# Altium schematic symbol library Module.SchLib: 54 symbols
Pins are listed as number, name and electrical type; pins without a type are passive.

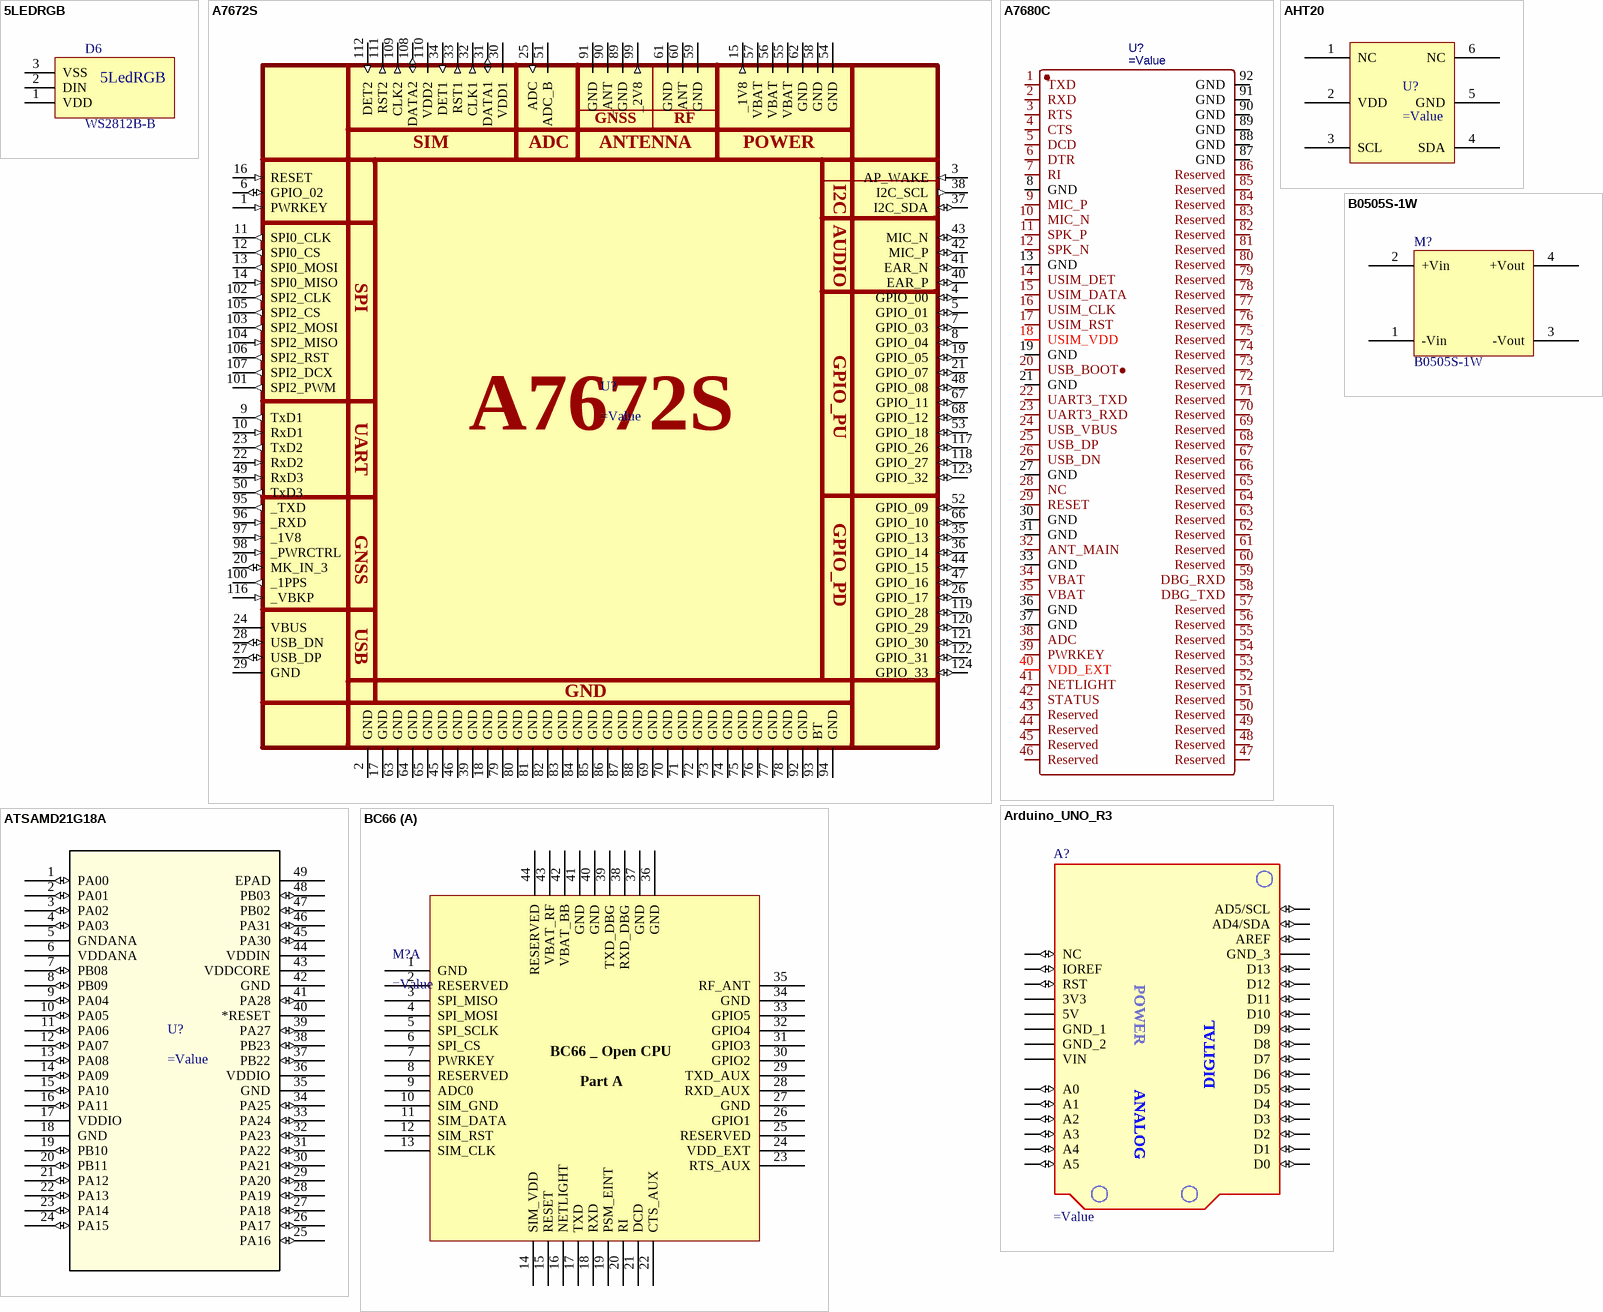
[diagram p0: symbols 5LEDRGB to BC66]

## 5LEDRGB
designator D6, comment WS2812B-B
RGB 620~630nmRed,515~530nmGreen,465~475nmBlue SMD,5x5mm Light Emitting Diodes (LED) RoHS; Manufacture: Worldsemi; Partnumber: WS2812B-B; Value: WS2812B-B; Creator: Huynn; Category: LED; Mounting type: SMD; Detailed Value: WS2812B-B
footprint WS2812B
pins: 1 VDD, 2 DIN, 3 VSS
text: 5LedRGB

## A7672S
designator U?
=Description
pins: 1 PWRKEY (in), 2 GND (power), 3 AP_WAKE (in), 4 GPIO_00 (io), 5 GPIO_01 (io), 6 GPIO_02 (io), 7 GPIO_03 (io), 8 GPIO_04 (io), 9 TxD1 (out), 10 RxD1 (in), 11 SPI0_CLK (out), 12 SPI0_CS (out), 13 SPI0_MOSI (out), 14 SPI0_MISO (in), 15 _1V8 (out), 16 RESET (in), 17 GND (power), 18 GND (power), 19 GPIO_05 (io), 20 MK_IN_3 (io), 21 GPIO_07 (io), 22 RxD2 (in), 23 TxD2 (out), 24 VBUS (power), 25 ADC (in), 26 GPIO_17 (io), 27 USB_DP (io), 28 USB_DN (io), 29 GND (power), 30 VDD1 (power), 31 DATA1 (io), 32 CLK1 (out), 33 RST1 (out), 34 DET1 (in), 35 GPIO_13 (io), 36 GPIO_14 (io), 37 I2C_SDA (io), 38 I2C_SCL (out), 39 GND (power), 40 EAR_P (io), 41 EAR_N (io), 42 MIC_P (io), 43 MIC_N (io), 44 GPIO_15 (io), 45 GND (power), 46 GND (power), 47 GPIO_16 (io), 48 GPIO_08 (io), 49 RxD3 (in), 50 TxD3 (out), 51 ADC_B (power), 52 GPIO_09 (io), 53 GPIO_18 (io), 54 GND (power), 55 VBAT (power), 56 VBAT (power), 57 VBAT (power), 58 GND (power), 59 GND (power), 60 _ANT, 61 GND (power), 62 GND (power), 63 GND (power), 64 GND (power), 65 GND (power), 66 GPIO_10 (io), 67 GPIO_11 (io), 68 GPIO_12 (io), 69 GND (power), 70 GND (power), 71 GND (power), 72 GND (power), 73 GND (power), 74 GND (power), 75 GND (power), 76 GND (power), 77 GND (power), 78 GND (power), 79 GND (power), 80 GND (power), 81 GND (power), 82 GND (power), 83 GND (power), 84 GND (power), 85 GND (power), 86 GND (power), 87 GND (power), 88 GND (power), 89 GND (power), 90 _ANT, 91 GND (power), 92 GND (power), 93 BT, 94 GND (power), 95 _TXD (out), 96 _RXD (in), 97 _1V8 (in), 98 _PWRCTRL (in), 99 _2V8 (out), 100 _1PPS (out), 101 SPI2_PWM (out), 102 SPI2_CLK (out), 103 SPI2_MOSI (out), 104 SPI2_MISO (in), 105 SPI2_CS (out), 106 SPI2_RST (out), 107 SPI2_DCX (out), 108 DATA2 (io), 109 CLK2 (out), 110 VDD2 (power), 111 RST2 (out), 112 DET2 (in), 116 _VBKP (in), 117 GPIO_26 (io), 118 GPIO_27 (io), 119 GPIO_28 (io), 120 GPIO_29 (io), 121 GPIO_30 (io), 122 GPIO_31 (io), 123 GPIO_32 (io), 124 GPIO_33 (io)
text: GNSS; RF; SIM; ANTENNA; POWER; I2C; AUDIO; SPI; GPIO_PU; UART; GPIO_PD; USB

## A7680C
designator U?
=Description; Manufacturer: SIMCOM(芯讯通无线科技); Manufacturer Part: A7680C-LAAS; Contributor: LCSC; Supplier: LCSC; Supplier Part: C2981435; JLCPCB Part Class: Extended Part; spicePre: U; spiceSymbolName: A7680C-LAAS
footprint LCC-LAG_L17.6-W15.7_A7680C
pins: 1 TXD, 2 RXD, 3 RTS, 4 CTS, 5 DCD, 6 DTR, 7 RI, 8 GND, 9 MIC_P, 10 MIC_N, 11 SPK_P, 12 SPK_N, 13 GND, 14 USIM_DET, 15 USIM_DATA, 16 USIM_CLK, 17 USIM_RST, 18 USIM_VDD, 19 GND, 20 USB_BOOT●, 21 GND, 22 UART3_TXD, 23 UART3_RXD, 24 USB_VBUS, 25 USB_DP, 26 USB_DN, 27 GND, 28 NC, 29 RESET, 30 GND, 31 GND, 32 ANT_MAIN, 33 GND, 34 VBAT, 35 VBAT, 36 GND, 37 GND, 38 ADC, 39 PWRKEY, 40 VDD_EXT, 41 NETLIGHT, 42 STATUS, 43 Reserved, 44 Reserved, 45 Reserved, 46 Reserved, 47 Reserved, 48 Reserved, 49 Reserved, 50 Reserved, 51 Reserved, 52 Reserved, 53 Reserved, 54 Reserved, 55 Reserved, 56 Reserved, 57 Reserved, 58 DBG_TXD, 59 DBG_RXD, 60 Reserved, 61 Reserved, 62 Reserved, 63 Reserved, 64 Reserved, 65 Reserved, 66 Reserved, 67 Reserved, 68 Reserved, 69 Reserved, 70 Reserved, 71 Reserved, 72 Reserved, 73 Reserved, 74 Reserved, 75 Reserved, 76 Reserved, 77 Reserved, 78 Reserved, 79 Reserved, 80 Reserved, 81 Reserved, 82 Reserved, 83 Reserved, 84 Reserved, 85 Reserved, 86 Reserved, 87 GND, 88 GND, 89 GND, 90 GND, 91 GND, 92 GND

## AHT20
designator U?
=Description
pins: 1 NC, 2 VDD, 3 SCL, 4 SDA, 5 GND, 6 NC

## Arduino_UNO_R3
designator A?
=Description
pins: 3V3 (power), 5V (power), A0 (io), A1 (io), A2 (io), A3 (io), A4 (io), A5 (io), AD4/SDA (io), AD5/SCL (io), AREF (io), D0 (io), D1 (io), D2 (io), D3 (io), D4 (io), D5 (io), D6 (io), D7 (io), D8 (io), D9 (io), D10 (io), D11 (io), D12 (io), D13 (io), GND_1 (power), GND_2 (power), GND_3 (power), IOREF (io), NC (io), RST (io), VIN (power)
text: POWER; ANALOG; DIGITAL

## ATSAMD21G18A
designator U?
=Description
pins: 1 PA00 (io), 2 PA01 (io), 3 PA02 (io), 4 PA03 (io), 5 GNDANA (power), 6 VDDANA (power), 7 PB08 (io), 8 PB09 (io), 9 PA04 (io), 10 PA05 (io), 11 PA06 (io), 12 PA07 (io), 13 PA08 (io), 14 PA09 (io), 15 PA10 (io), 16 PA11 (io), 17 VDDIO (power), 18 GND (power), 19 PB10 (io), 20 PB11 (io), 21 PA12 (io), 22 PA13 (io), 23 PA14 (io), 24 PA15 (io), 25 PA16 (io), 26 PA17 (io), 27 PA18 (io), 28 PA19 (io), 29 PA20 (io), 30 PA21 (io), 31 PA22 (io), 32 PA23 (io), 33 PA24 (io), 34 PA25 (io), 35 GND (power), 36 VDDIO (power), 37 PB22 (io), 38 PB23 (io), 39 PA27 (io), 40 *RESET, 41 PA28 (io), 42 GND (power), 43 VDDCORE (power), 44 VDDIN (power), 45 PA30 (io), 46 PA31 (io), 47 PB02 (io), 48 PB03 (io), 49 EPAD

## B0505S-1W
designator M?
=Description; Manufacture: VISOM; Partnumber: B0505S-1W; Value: B0505S-1W; Category: Module; Mounting type: TH; Detailed Value: B0505S-1W; Creator: Tunn
footprint B0505S-1W
pins: 1 -Vin, 2 +Vin, 3 -Vout, 4 +Vout

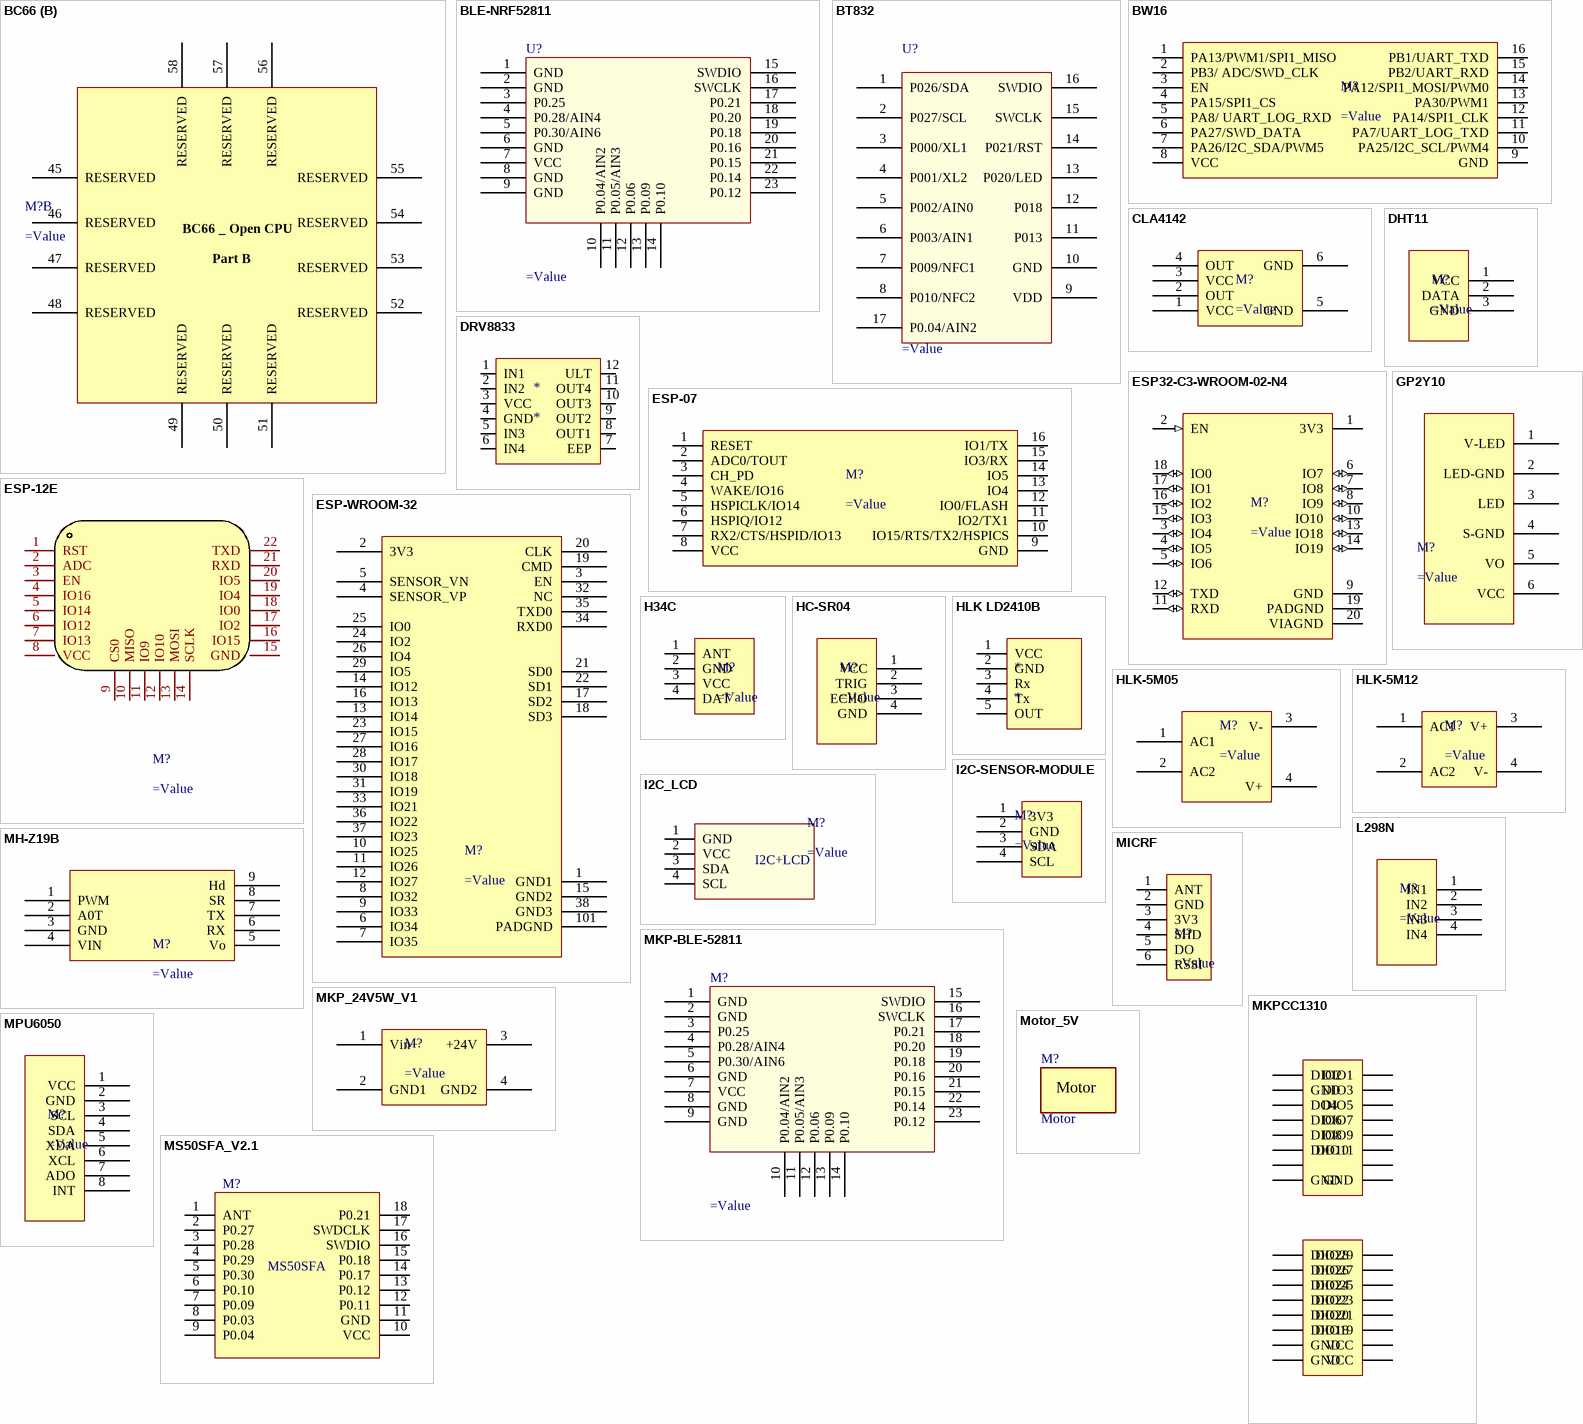
[diagram p1: symbols BC66 to MS50SFA_V2.1]

## BC66
designator M?
=Description
footprint Model Name (Footprint not found)
part A pins: 1 GND, 2 RESERVED, 3 SPI_MISO, 4 SPI_MOSI, 5 SPI_SCLK, 6 SPI_CS, 7 PWRKEY, 8 RESERVED, 9 ADC0, 10 SIM_GND, 11 SIM_DATA, 12 SIM_RST, 13 SIM_CLK, 14 SIM_VDD, 15 RESET, 16 NETLIGHT, 17 TXD, 18 RXD, 19 PSM_EINT, 20 RI, 21 DCD, 22 CTS_AUX, 23 RTS_AUX, 24 VDD_EXT, 25 RESERVED, 26 GPIO1, 27 GND, 28 RXD_AUX, 29 TXD_AUX, 30 GPIO2, 31 GPIO3, 32 GPIO4, 33 GPIO5, 34 GND, 35 RF_ANT, 36 GND, 37 GND, 38 RXD_DBG, 39 TXD_DBG, 40 GND, 41 GND, 42 VBAT_BB, 43 VBAT_RF, 44 RESERVED
part B pins: 45 RESERVED, 46 RESERVED, 47 RESERVED, 48 RESERVED, 49 RESERVED, 50 RESERVED, 51 RESERVED, 52 RESERVED, 53 RESERVED, 54 RESERVED, 55 RESERVED, 56 RESERVED, 57 RESERVED, 58 RESERVED
part A text: BC66 _ Open CPU; Part A
part B text: BC66 _ Open CPU; Part B

## BLE-NRF52811
designator U?
=Description
pins: 1 GND, 2 GND, 3 P0.25, 4 P0.28/AIN4, 5 P0.30/AIN6, 6 GND, 7 VCC, 8 GND, 9 GND, 10 P0.04/AIN2, 11 P0.05/AIN3, 12 P0.06, 13 P0.09, 14 P0.10, 15 SWDIO, 16 SWCLK, 17 P0.21, 18 P0.20, 19 P0.18, 20 P0.16, 21 P0.15, 22 P0.14, 23 P0.12

## BT832
designator U?
=Description
pins: 1 P026/SDA, 2 P027/SCL, 3 P000/XL1, 4 P001/XL2, 5 P002/AIN0, 6 P003/AIN1, 7 P009/NFC1, 8 P010/NFC2, 9 VDD, 10 GND, 11 P013, 12 P018, 13 P020/LED, 14 P021/RST, 15 SWCLK, 16 SWDIO, 17 P0.04/AIN2

## BW16
designator M?
pins: 1 PA13/PWM1/SPI1_MISO, 2 PB3/ ADC/SWD_CLK, 3 EN, 4 PA15/SPI1_CS, 5 PA8/ UART_LOG_RXD, 6 PA27/SWD_DATA, 7 PA26/I2C_SDA/PWM5, 8 VCC, 9 GND, 10 PA25/I2C_SCL/PWM4, 11 PA7/UART_LOG_TXD, 12 PA14/SPI1_CLK, 13 PA30/PWM1, 14 PA12/SPI1_MOSI/PWM0, 15 PB2/UART_RXD, 16 PB1/UART_TXD

## CLA4142
designator M?
=Description
pins: 1 VCC, 2 OUT, 3 VCC, 4 OUT, 5 GND, 6 GND

## DHT11
designator M?
=Description
pins: 1 VCC, 2 DATA, 3 GND

## DRV8833
designator *
pins: 1 IN1, 2 IN2, 3 VCC, 4 GND, 5 IN3, 6 IN4, 7 EEP, 8 OUT1, 9 OUT2, 10 OUT3, 11 OUT4, 12 ULT

## ESP32-C3-WROOM-02-N4
designator M?
pins: 1 3V3 (power), 2 EN (in), 3 IO4 (io), 4 IO5 (io), 5 IO6 (io), 6 IO7 (io), 7 IO8 (io), 8 IO9 (io), 9 GND (power), 10 IO10 (io), 11 RXD (io), 12 TXD (io), 13 IO18 (io), 14 IO19 (io), 15 IO3 (io), 16 IO2 (io), 17 IO1 (io), 18 IO0 (io), 19 PADGND (power), 20 VIAGND (power)

## ESP-07
designator M?
=Description
pins: 1 RESET, 2 ADC0/TOUT, 3 CH_PD, 4 WAKE/IO16, 5 HSPICLK/IO14, 6 HSPIQ/IO12, 7 RX2/CTS/HSPID/IO13, 8 VCC, 9 GND, 10 IO15/RTS/TX2/HSPICS, 11 IO2/TX1, 12 IO0/FLASH, 13 IO4, 14 IO5, 15 IO3/RX, 16 IO1/TX

## ESP-12E
designator M?
=Description
pins: 1 RST, 2 ADC, 3 EN, 4 IO16, 5 IO14, 6 IO12, 7 IO13, 8 VCC, 9 CS0, 10 MISO, 11 IO9, 12 IO10, 13 MOSI, 14 SCLK, 15 GND, 16 IO15, 17 IO2, 18 IO0, 19 IO4, 20 IO5, 21 RXD, 22 TXD

## ESP-WROOM-32
designator M?
=Description
pins: 1 GND1, 2 3V3, 3 EN, 4 SENSOR_VP, 5 SENSOR_VN, 6 IO34, 7 IO35, 8 IO32, 9 IO33, 10 IO25, 11 IO26, 12 IO27, 13 IO14, 14 IO12, 15 GND2, 16 IO13, 17 SD2, 18 SD3, 19 CMD, 20 CLK, 21 SD0, 22 SD1, 23 IO15, 24 IO2, 25 IO0, 26 IO4, 27 IO16, 28 IO17, 29 IO5, 30 IO18, 31 IO19, 32 NC, 33 IO21, 34 RXD0, 35 TXD0, 36 IO22, 37 IO23, 38 GND3, 101 PADGND

## GP2Y10
designator M?
=Description
pins: 1 V-LED, 2 LED-GND, 3 LED, 4 S-GND, 5 VO, 6 VCC

## H34C
designator M?
=Description
pins: 1 ANT, 2 GND, 3 VCC, 4 DAT

## HC-SR04
designator M?
=Description
pins: 1 VCC, 2 TRIG, 3 ECHO, 4 GND

## HLK LD2410B
designator *
pins: 1 VCC, 2 GND, 3 Rx, 4 Tx, 5 OUT

## HLK-5M05
designator M?
=Description
pins: 1 AC1, 2 AC2, 3 V-, 4 V+

## HLK-5M12
designator M?
=Description
pins: 1 AC1, 2 AC2, 3 V+, 4 V-

## I2C-SENSOR-MODULE
designator M?
=Description
pins: 1 3V3, 2 GND, 3 SDA, 4 SCL

## I2C_LCD
designator M?
=Description
pins: 1 GND, 2 VCC, 3 SDA, 4 SCL
text: I2C+LCD

## L298N
designator M?
=Description
pins: 1 IN1, 2 IN2, 3 IN3, 4 IN4

## MH-Z19B
designator M?
=Description
pins: 1 PWM, 2 A0T, 3 GND, 4 VIN, 5 Vo, 6 RX, 7 TX, 8 SR, 9 Hd

## MICRF
designator M?
=Description
pins: 1 ANT, 2 GND, 3 3V3, 4 SHD, 5 DO, 6 RSSI

## MKP-BLE-52811
designator M?
=Description
pins: 1 GND, 2 GND, 3 P0.25, 4 P0.28/AIN4, 5 P0.30/AIN6, 6 GND, 7 VCC, 8 GND, 9 GND, 10 P0.04/AIN2, 11 P0.05/AIN3, 12 P0.06, 13 P0.09, 14 P0.10, 15 SWDIO, 16 SWCLK, 17 P0.21, 18 P0.20, 19 P0.18, 20 P0.16, 21 P0.15, 22 P0.14, 23 P0.12

## MKP_24V5W_V1
designator M?
=Description
pins: 1 Vin+, 2 GND1, 3 +24V, 4 GND2

## MKPCC1310
designator M?
=Description
pins: A1 GND, A2, A3 DIO10, A4 DIO8, A5 DIO6, A6 DO4, A7 GND, A8 DIO2, A9 DIO1, A10 DIO3, A11 DIO5, A12 DIO7, A13 DIO9, A14 DIO11, A15, A16 GND, B1 GND, B2 GND, B3 DIO18, B4 DIO20, B5 DIO22, B6 DIO28, B6 DIO24, B7 DIO26, B9 DIO29, B10 DIO27, B11 DIO25, B12 DIO23, B13 DIO21, B14 DIO19, B15 VCC, B16 VCC

## Motor_5V
designator M?, comment Motor
=Description; Partnumber: DC_Motor-mini; Link sale: #https://banlinhkien.com/dong-co-mini-36v-v1-p6652547.html#; Value: Motor; Creator: Manhpd; Category: Module; Supplier: MINH HÀ; Detailed Value: Motor
footprint Motor_DC

## MPU6050
designator M?
=Description
pins: 1 VCC, 2 GND, 3 SCL, 4 SDA, 5 XDA, 6 XCL, 7 ADO, 8 INT

## MS50SFA_V2.1
designator M?  (value not drawn)
=Description; Manufacturer: minew; ERP Number: 416060204; Categor: module; Value: *; Supplier Part Number: *; Supplier: *; Size: 15.8*12*1.8mm; Publisher: minew; Published: 2020-04-13; Note: *; Manufacturer Part Number: *; Lastest Revision Date: *; Datasheet: *
footprint MS50SFA_V2.1 (MS50SFA)
pins: 1 ANT, 2 P0.27, 3 P0.28, 4 P0.29, 5 P0.30, 6 P0.10, 7 P0.09, 8 P0.03, 9 P0.04, 10 VCC, 11 GND, 12 P0.11, 13 P0.12, 14 P0.17, 15 P0.18, 16 SWDIO, 17 SWDCLK, 18 P0.21
text: MS50SFA

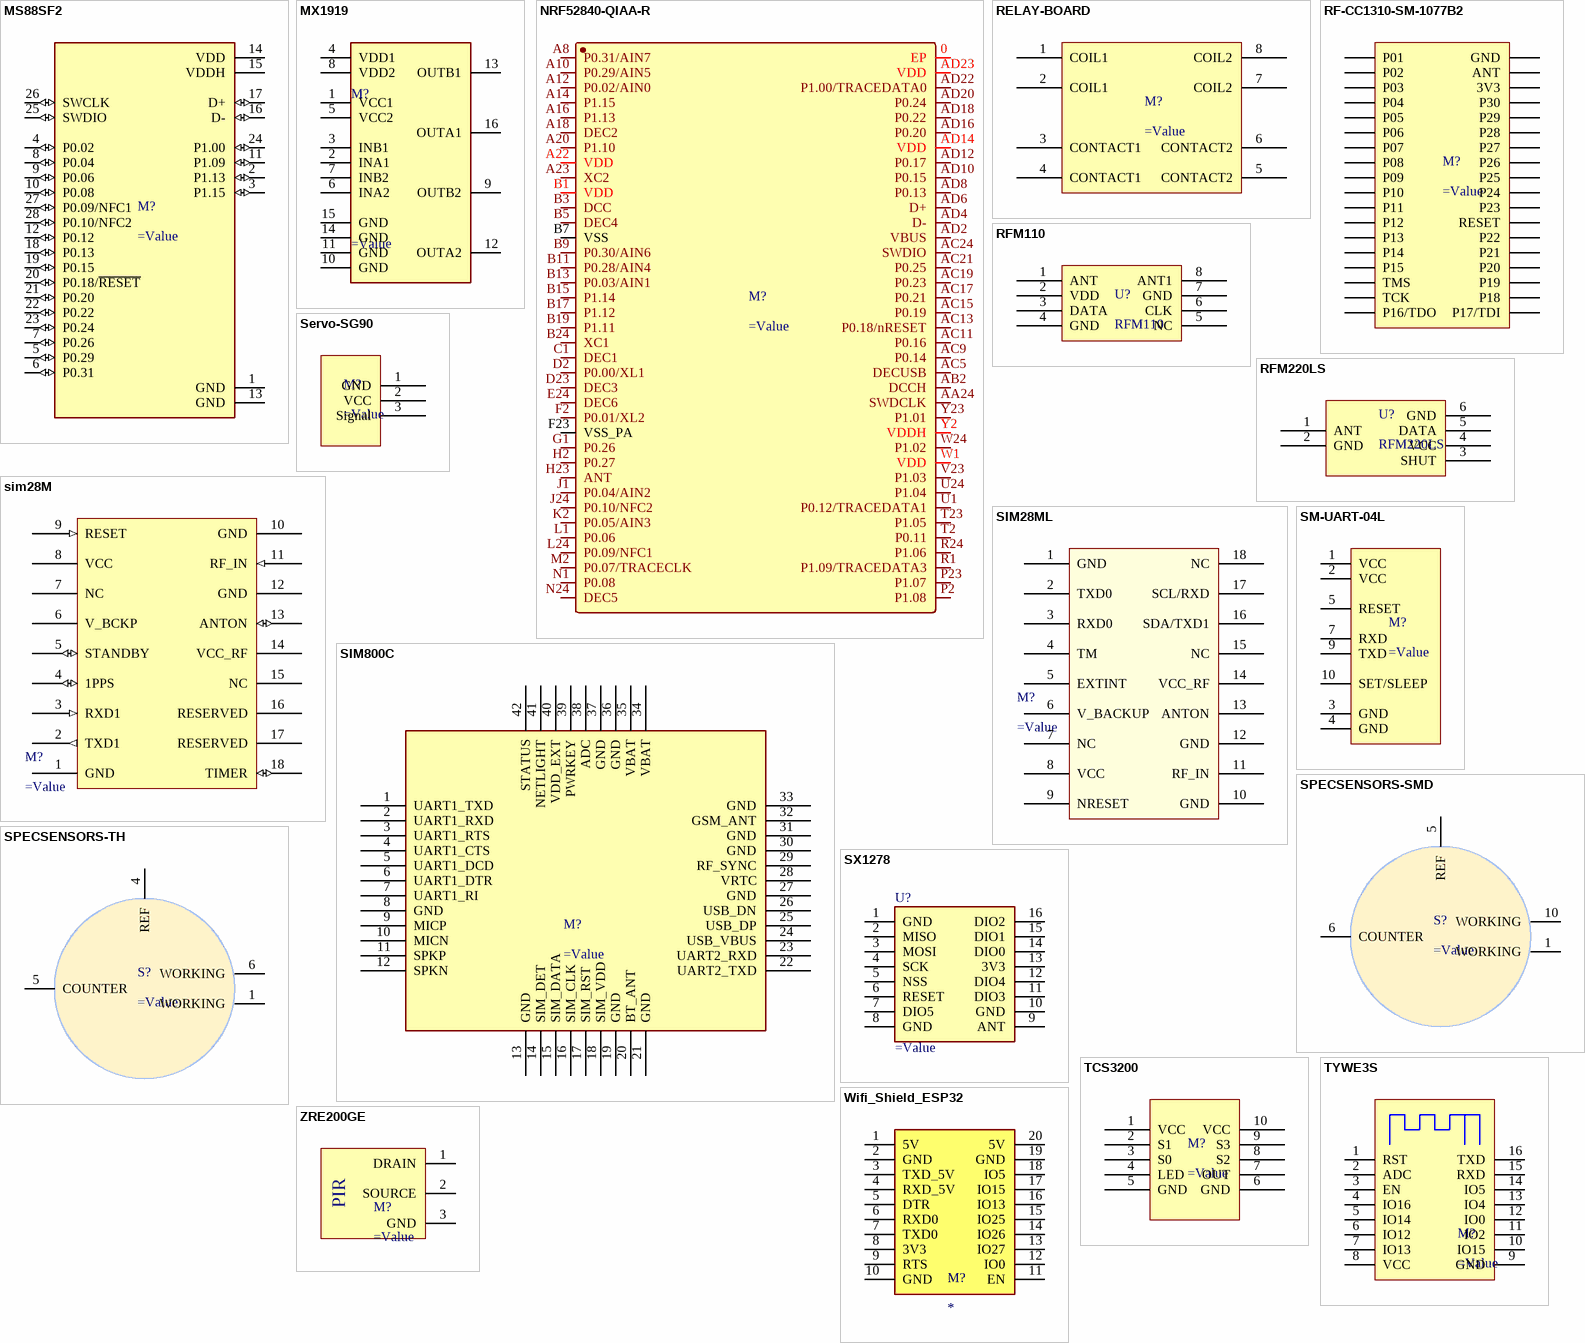
[diagram p2: symbols MS88SF2 to ZRE200GE]

## MS88SF2
designator M?
pins: 1 GND (power), 2 P1.13 (io), 3 P1.15 (io), 4 P0.02 (io), 5 P0.29 (io), 6 P0.31 (io), 7 P0.26 (io), 8 P0.04 (io), 9 P0.06 (io), 10 P0.08 (io), 11 P1.09 (io), 12 P0.12 (io), 13 GND (power), 14 VDD (power), 15 VDDH (power), 16 D- (io), 17 D+ (io), 18 P0.13 (io), 19 P0.15 (io), 20 P0.18/~{RESET} (io), 21 P0.20 (io), 22 P0.22 (io), 23 P0.24 (io), 24 P1.00 (io), 25 SWDIO (io), 26 SWCLK (io), 27 P0.09/NFC1 (io), 28 P0.10/NFC2 (io)

## MX1919
designator M?
=Description
footprint PCBComponent_1
pins: 1 VCC1, 2 INA1, 3 INB1, 4 VDD1, 5 VCC2, 6 INA2, 7 INB2, 8 VDD2, 9 OUTB2, 10 GND, 11 GND, 12 OUTA2, 13 OUTB1, 14 GND, 15 GND, 16 OUTA1

## NRF52840-QIAA-R
designator M?
pins: 0 EP, A8 P0.31/AIN7, A10 P0.29/AIN5, A12 P0.02/AIN0, A14 P1.15, A16 P1.13, A18 DEC2, A20 P1.10, A22 VDD, A23 XC2, AA24 SWDCLK, AB2 DCCH, AC5 DECUSB, AC9 P0.14, AC11 P0.16, AC13 P0.18/nRESET, AC15 P0.19, AC17 P0.21, AC19 P0.23, AC21 P0.25, AC24 SWDIO, AD2 VBUS, AD4 D-, AD6 D+, AD8 P0.13, AD10 P0.15, AD12 P0.17, AD14 VDD, AD16 P0.20, AD18 P0.22, AD20 P0.24, AD22 P1.00/TRACEDATA0, AD23 VDD, B1 VDD, B3 DCC, B5 DEC4, B7 VSS, B9 P0.30/AIN6, B11 P0.28/AIN4, B13 P0.03/AIN1, B15 P1.14, B17 P1.12, B19 P1.11, B24 XC1, C1 DEC1, D2 P0.00/XL1, D23 DEC3, E24 DEC6, F2 P0.01/XL2, F23 VSS_PA, G1 P0.26, H2 P0.27, H23 ANT, J1 P0.04/AIN2, J24 P0.10/NFC2, K2 P0.05/AIN3, L1 P0.06, L24 P0.09/NFC1, M2 P0.07/TRACECLK, N1 P0.08, N24 DEC5, P2 P1.08, P23 P1.07, R1 P1.09/TRACEDATA3, R24 P1.06, T2 P0.11, T23 P1.05, U1 P0.12/TRACEDATA1, U24 P1.04, V23 P1.03, W1 VDD, W24 P1.02, Y2 VDDH, Y23 P1.01

## RELAY-BOARD
designator M?
=Description
pins: 1 COIL1, 2 COIL1, 3 CONTACT1, 4 CONTACT1, 5 CONTACT2, 6 CONTACT2, 7 COIL2, 8 COIL2

## RF-CC1310-SM-1077B2
designator M?
=Description
pins: 1 P01, 2 P02, 3 P03, 4 P04, 5 P05, 6 P06, 7 P07, 8 P08, 9 P09, 10 P10, 11 P11, 12 P12, 13 P13, 14 P14, 15 P15, 16 TMS, 17 TCK, 18 P16/TDO, 19 P17/TDI, 20 P18, 21 P19, 22 P20, 23 P21, 24 P22, 25 RESET, 26 P23, 27 P24, 28 P25, 29 P26, 30 P27, 31 P28, 32 P29, 33 P30, 34 3V3, 35 ANT, 36 GND

## RFM110
designator U?
pins: 1 ANT, 2 VDD, 3 DATA, 4 GND, 5 NC, 6 CLK, 7 GND, 8 ANT1

## RFM220LS
designator U?
pins: 1 ANT, 2 GND, 3 SHUT, 4 VCC, 5 DATA, 6 GND

## Servo-SG90
designator M?
=Description
pins: 1 GND, 2 VCC, 3 Signal

## sim28M
designator M?
=Description
pins: 1 GND (power), 2 TXD1 (out), 3 RXD1 (in), 4 1PPS (io), 5 STANDBY (io), 6 V_BCKP (power), 7 NC, 8 VCC (power), 9 RESET (in), 10 GND (power), 11 RF_IN (in), 12 GND (power), 13 ANTON (io), 14 VCC_RF (power), 15 NC, 16 RESERVED, 17 RESERVED, 18 TIMER (io)

## SIM28ML
designator M?
=Description
pins: 1 GND, 2 TXD0, 3 RXD0, 4 TM, 5 EXTINT, 6 V_BACKUP, 7 NC, 8 VCC, 9 NRESET, 10 GND, 11 RF_IN, 12 GND, 13 ANTON, 14 VCC_RF, 15 NC, 16 SDA/TXD1, 17 SCL/RXD, 18 NC

## SIM800C
designator M?
=Description
pins: 1 UART1_TXD, 2 UART1_RXD, 3 UART1_RTS, 4 UART1_CTS, 5 UART1_DCD, 6 UART1_DTR, 7 UART1_RI, 8 GND, 9 MICP, 10 MICN, 11 SPKP, 12 SPKN, 13 GND, 14 SIM_DET, 15 SIM_DATA, 16 SIM_CLK, 17 SIM_RST, 18 SIM_VDD, 19 GND, 20 BT_ANT, 21 GND, 22 UART2_TXD, 23 UART2_RXD, 24 USB_VBUS, 25 USB_DP, 26 USB_DN, 27 GND, 28 VRTC, 29 RF_SYNC, 30 GND, 31 GND, 32 GSM_ANT, 33 GND, 34 VBAT, 35 VBAT, 36 GND, 37 GND, 38 ADC, 39 PWRKEY, 40 VDD_EXT, 41 NETLIGHT, 42 STATUS

## SM-UART-04L
designator M?
=Description
pins: 1 VCC, 2 VCC, 3 GND, 4 GND, 5 RESET, 7 RXD, 9 TXD, 10 SET/SLEEP

## SPECSENSORS-SMD
designator S?
=Description
pins: 1 WORKING, 5 REF, 6 COUNTER, 10 WORKING

## SPECSENSORS-TH
designator S?
=Description
pins: 1 WORKING, 4 REF, 5 COUNTER, 6 WORKING

## SX1278
designator U?
=Description
footprint PCBComponent_1
pins: 1 GND, 2 MISO, 3 MOSI, 4 SCK, 5 NSS, 6 RESET, 7 DIO5, 8 GND, 9 ANT, 10 GND, 11 DIO3, 12 DIO4, 13 3V3, 14 DIO0, 15 DIO1, 16 DIO2

## TCS3200
designator M?
=Description
pins: 1 VCC, 2 S1, 3 S0, 4 LED, 5 GND, 6 GND, 7 OUT, 8 S2, 9 S3, 10 VCC

## TYWE3S
designator M?
=Description
pins: 1 RST, 2 ADC, 3 EN, 4 IO16, 5 IO14, 6 IO12, 7 IO13, 8 VCC, 9 GND, 10 IO15, 11 IO2, 12 IO0, 13 IO4, 14 IO5, 15 RXD, 16 TXD

## Wifi_Shield_ESP32
designator M?
footprint Wifi_Shield_ESP32
pins: 1 5V, 2 GND, 3 TXD_5V, 4 RXD_5V, 5 DTR, 6 RXD0, 7 TXD0, 8 3V3, 9 RTS, 10 GND, 11 EN, 12 IO0, 13 IO27, 14 IO26, 15 IO25, 16 IO13, 17 IO15, 18 IO5, 19 GND, 20 5V

## ZRE200GE
designator M?
=Description
pins: 1 DRAIN, 2 SOURCE, 3 GND
text: PIR